# EAGLE library part FX6-80 (library monome)
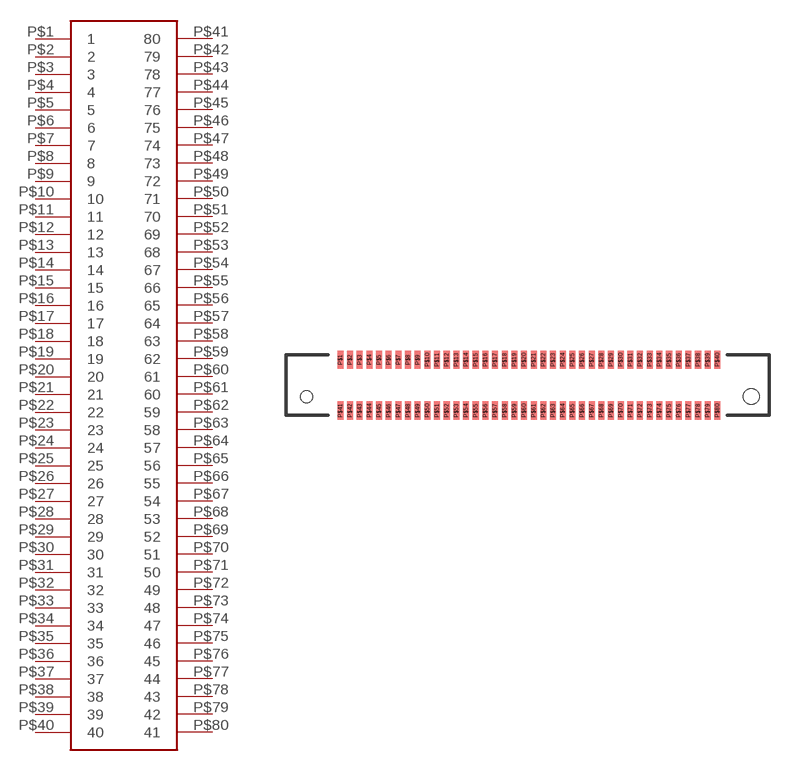
[diagram p7: symbol with the pads of FX6-80; footprint FX6-80]

Designator prefix -

## FX6-80  [FX6-80]
P$1  1
P$2  2
P$3  3
P$4  4
P$5  5
P$6  6
P$7  7
P$8  8
P$9  9
P$10  10
P$11  11
P$12  12
P$13  13
P$14  14
P$15  15
P$16  16
P$17  17
P$18  18
P$19  19
P$20  20
P$21  21
P$22  22
P$23  23
P$24  24
P$25  25
P$26  26
P$27  27
P$28  28
P$29  29
P$30  30
P$31  31
P$32  32
P$33  33
P$34  34
P$35  35
P$36  36
P$37  37
P$38  38
P$39  39
P$40  40
P$41  80
P$42  79
P$43  78
P$44  77
P$45  76
P$46  75
P$47  74
P$48  73
P$49  72
P$50  71
P$51  70
P$52  69
P$53  68
P$54  67
P$55  66
P$56  65
P$57  64
P$58  63
P$59  62
P$60  61
P$61  60
P$62  59
P$63  58
P$64  57
P$65  56
P$66  55
P$67  54
P$68  53
P$69  52
P$70  51
P$71  50
P$72  49
P$73  48
P$74  47
P$75  46
P$76  45
P$77  44
P$78  43
P$79  42
P$80  41

## Footprint FX6-80 (pad centres in mm)
smd 0.5 x 1.5: P$1 0,2.1; P$2 0.8,2.1; P$3 1.6,2.1; P$4 2.4,2.1; P$5 3.2,2.1; P$6 4,2.1; P$7 4.8,2.1; P$8 5.6,2.1; P$9 6.4,2.1; P$10 7.2,2.1; P$11 8,2.1; P$12 8.8,2.1; P$13 9.6,2.1; P$14 10.4,2.1; P$15 11.2,2.1; P$16 12,2.1; P$17 12.8,2.1; P$18 13.6,2.1; P$19 14.4,2.1; P$20 15.2,2.1; P$21 16,2.1; P$22 16.8,2.1; P$23 17.6,2.1; P$24 18.4,2.1; P$25 19.2,2.1; P$26 20,2.1; P$27 20.8,2.1; P$28 21.6,2.1; P$29 22.4,2.1; P$30 23.2,2.1; P$31 24,2.1; P$32 24.8,2.1; P$33 25.6,2.1; P$34 26.4,2.1; P$35 27.2,2.1; P$36 28,2.1; P$37 28.8,2.1; P$38 29.6,2.1; P$39 30.4,2.1; P$40 31.2,2.1; P$41 0,-2.1; P$42 0.8,-2.1; P$43 1.6,-2.1; P$44 2.4,-2.1; P$45 3.2,-2.1; P$46 4,-2.1; P$47 4.8,-2.1; P$48 5.6,-2.1; P$49 6.4,-2.1; P$50 7.2,-2.1; P$51 8,-2.1; P$52 8.8,-2.1; P$53 9.6,-2.1; P$54 10.4,-2.1; P$55 11.2,-2.1; P$56 12,-2.1; P$57 12.8,-2.1; P$58 13.6,-2.1; P$59 14.4,-2.1; P$60 15.2,-2.1; P$61 16,-2.1; P$62 16.8,-2.1; P$63 17.6,-2.1; P$64 18.4,-2.1; P$65 19.2,-2.1; P$66 20,-2.1; P$67 20.8,-2.1; P$68 21.6,-2.1; P$69 22.4,-2.1; P$70 23.2,-2.1; P$71 24,-2.1; P$72 24.8,-2.1; P$73 25.6,-2.1; P$74 26.4,-2.1; P$75 27.2,-2.1; P$76 28,-2.1; P$77 28.8,-2.1; P$78 29.6,-2.1; P$79 30.4,-2.1; P$80 31.2,-2.1
hole 1 at -2.8,-0.95
hole 1.3 at 34,-0.95